# EAGLE library part INA199A2DCKT (library HEXABITZ_ICs)
CURRENT SHUNT MONITOR
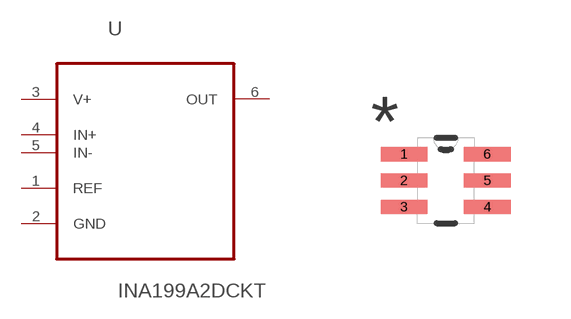
[diagram p20: symbol with the pads of SOT65P210X110-6N; footprint SOT65P210X110-6N]

Designator prefix U

## INA199A2DCKT (DESCRIPTION: 26V, bi-directional current sense amplifier 6-SC70 -40 to 125; MFN: Texas Instruments; MPN: INA199A2DCKT; OCTOPART_URL: https://octopart.com/ina199a2dckt-texas+instruments-18607270?r=sp)  [SOT65P210X110-6N]
1  REF  in
2  GND  pas
3  V+  pwr
4  IN+  in
5  IN-  in
6  OUT  out

## Footprint SOT65P210X110-6N (pad centres in mm)
smd 1.168 x 0.356: 1 -1.041,0.66; 2 -1.041,0; 3 -1.041,-0.66; 4 1.041,-0.66; 5 1.041,0; 6 1.041,0.66